# EAGLE library part PIC32MM0256GPM064 (library IC & Transistor)
PIC32MM0256GPM064 Created by: Wai Weng
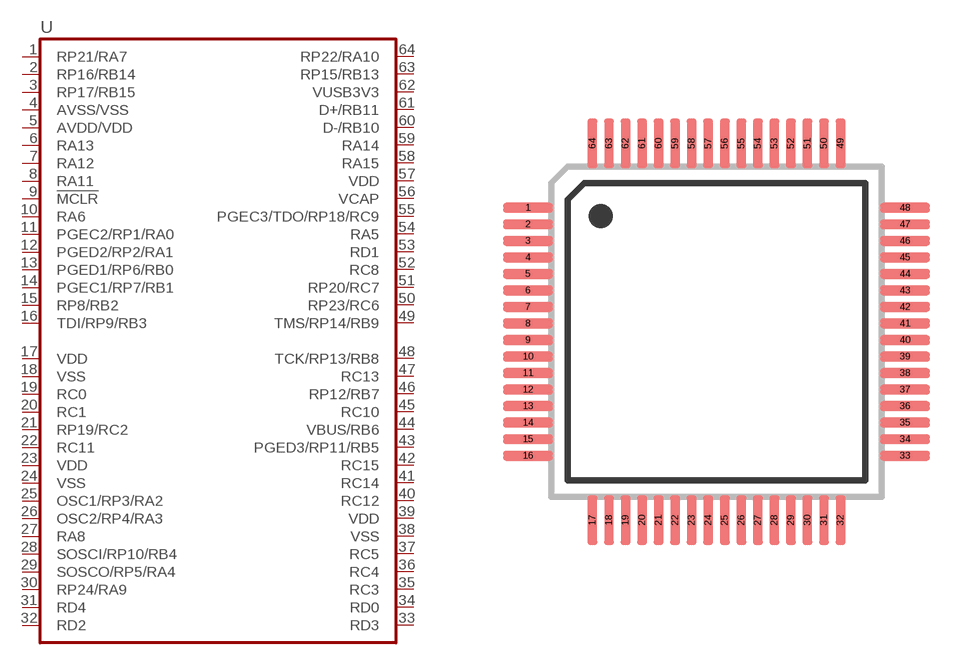
[diagram p89: symbol with the pads of TQFP-64-05; footprint TQFP-64-05]

Designator prefix U

## PIC32MM0256GPM064 (DESC: S PIC32MM0256GPM064-I/PT TQFP64; MF: Microchip Technology; MPN: PIC32MM0256GPM064-I/PT)  [TQFP-64-05]
1  RP21/RA7
2  RP16/RB14
3  RP17/RB15
4  AVSS/VSS
5  AVDD/VDD
6  RA13
7  RA12
8  RA11
9  !MCLR
10  RA6
11  PGEC2/RP1/RA0
12  PGED2/RP2/RA1
13  PGED1/RP6/RB0
14  PGEC1/RP7/RB1
15  RP8/RB2
16  TDI/RP9/RB3
17  VDD
18  VSS
19  RC0
20  RC1
21  RP19/RC2
22  RC11
23  VDD
24  VSS
25  OSC1/RP3/RA2
26  OSC2/RP4/RA3
27  RA8
28  SOSCI/RP10/RB4
29  SOSCO/RP5/RA4
30  RP24/RA9
31  RD4
32  RD2
33  RD3
34  RD0
35  RC3
36  RC4
37  RC5
38  VSS
39  VDD
40  RC12
41  RC14
42  RC15
43  PGED3/RP11/RB5
44  VBUS/RB6
45  RC10
46  RP12/RB7
47  RC13
48  TCK/RP13/RB8
49  TMS/RP14/RB9
50  RP23/RC6
51  RP20/RC7
52  RC8
53  RD1
54  RA5
55  PGEC3/TDO/RP18/RC9
56  VCAP
57  VDD
58  RA15
59  RA14
60  D-/RB10
61  D+/RB11
62  VUSB3V3
63  RP15/RB13
64  RP22/RA10

## Footprint TQFP-64-05 (pad centres in mm)
Thin Plasic Quad Flat Package (TQFP) Size: 10mm x 10mm Pitch: 0.5mm Created by: Wai Weng
smd 1.5 x 0.3: 1 -5.7,3.75; 2 -5.7,3.25; 3 -5.7,2.75; 4 -5.7,2.25; 5 -5.7,1.75; 6 -5.7,1.25; 7 -5.7,0.75; 8 -5.7,0.25; 9 -5.7,-0.25; 10 -5.7,-0.75; 11 -5.7,-1.25; 12 -5.7,-1.75; 13 -5.7,-2.25; 14 -5.7,-2.75; 15 -5.7,-3.25; 16 -5.7,-3.75; 33 5.7,-3.75; 34 5.7,-3.25; 35 5.7,-2.75; 36 5.7,-2.25; 37 5.7,-1.75; 38 5.7,-1.25; 39 5.7,-0.75; 40 5.7,-0.25; 41 5.7,0.25; 42 5.7,0.75; 43 5.7,1.25; 44 5.7,1.75; 45 5.7,2.25; 46 5.7,2.75; 47 5.7,3.25; 48 5.7,3.75
smd 0.3 x 1.5: 17 -3.75,-5.7; 18 -3.25,-5.7; 19 -2.75,-5.7; 20 -2.25,-5.7; 21 -1.75,-5.7; 22 -1.25,-5.7; 23 -0.75,-5.7; 24 -0.25,-5.7; 25 0.25,-5.7; 26 0.75,-5.7; 27 1.25,-5.7; 28 1.75,-5.7; 29 2.25,-5.7; 30 2.75,-5.7; 31 3.25,-5.7; 32 3.75,-5.7; 49 3.75,5.7; 50 3.25,5.7; 51 2.75,5.7; 52 2.25,5.7; 53 1.75,5.7; 54 1.25,5.7; 55 0.75,5.7; 56 0.25,5.7; 57 -0.25,5.7; 58 -0.75,5.7; 59 -1.25,5.7; 60 -1.75,5.7; 61 -2.25,5.7; 62 -2.75,5.7; 63 -3.25,5.7; 64 -3.75,5.7